# Altium schematic symbol library MCP1700T.SchLib: 1 symbol
Pins are listed as number, name and electrical type; pins without a type are passive.

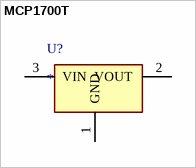
[diagram p0: symbol MCP1700T]

## MCP1700T
designator U?
Low Quiescent Current LDO; datasheet: https://www.mouser.es/datasheet/2/268/MCP1700_Data_Sheet_20001826F-737536.pdf
footprint MCP1700
pins: 1 GND, 2 VOUT, 3 VIN